# Altium schematic symbol library NetTie.SchLib: 7 symbols
Pins are listed as number, name and electrical type; pins without a type are passive.

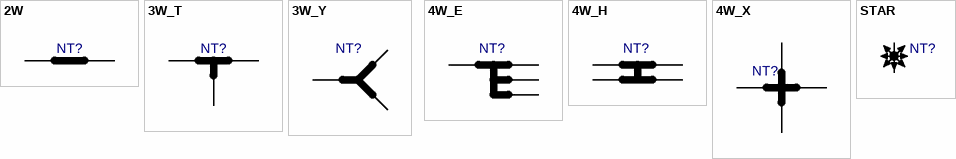
[diagram p0: symbols 2W to STAR]

## 2W
designator NT?, comment Net Tie  (value not drawn)  (net tie, no BOM)
2-way net tie
footprint 2W_20
footprint 2W_40
footprint 2W_80
pins: 1, 2

## 3W_T
designator NT?, comment Net Tie  (value not drawn)  (net tie, no BOM)
3-way net tie
pins: 1, 2, 3

## 3W_Y
designator NT?, comment Net Tie  (value not drawn)  (net tie, no BOM)
3-way net tie
pins: 1, 2, 3

## 4W_E
designator NT?, comment Net Tie  (value not drawn)  (net tie, no BOM)
4-way net tie
pins: 1, 2, 3, 4

## 4W_H
designator NT?, comment Net Tie  (value not drawn)  (net tie, no BOM)
4-way net tie
pins: 1, 2, 3, 4

## 4W_X
designator NT?, comment Net Tie  (value not drawn)  (net tie, no BOM)
4-way net tie
pins: 1, 2, 3, 4

## STAR
designator NT?, comment Net Tie  (value not drawn)  (net tie, no BOM)
Starpoint
pins: 1, 2